# EAGLE library part EXBN8V_S (library resistor-array)
EXB Series (0402) - Panasonic 4 Resistors, 8 Terminations
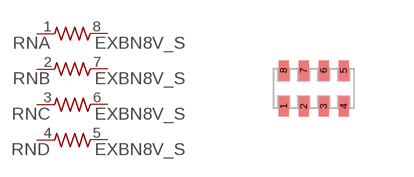
[diagram p17: symbol with the pads of EXBN8V; footprint EXBN8V]

Designator prefix RN; gates A=R1NV B=R1NV C=R1NV D=R1NV

## EXBN8V_S  [EXBN8V]
1  A:1  pas
2  B:1  pas
3  C:1  pas
4  D:1  pas
5  D:2  pas
6  C:2  pas
7  B:2  pas
8  A:2  pas

## Footprint EXBN8V (pad centres in mm)
EXBN8V (0402) - Panasonic
smd 0.25 x 0.5: 1 -0.75,-0.45; 2 -0.25,-0.45; 3 0.25,-0.45; 4 0.75,-0.45; 5 0.75,0.45; 6 0.25,0.45; 7 -0.25,0.45; 8 -0.75,0.45